# Altium schematic symbol library LINEAR Series.SchLib: 3 symbols
Pins are listed as number, name and electrical type; pins without a type are passive.

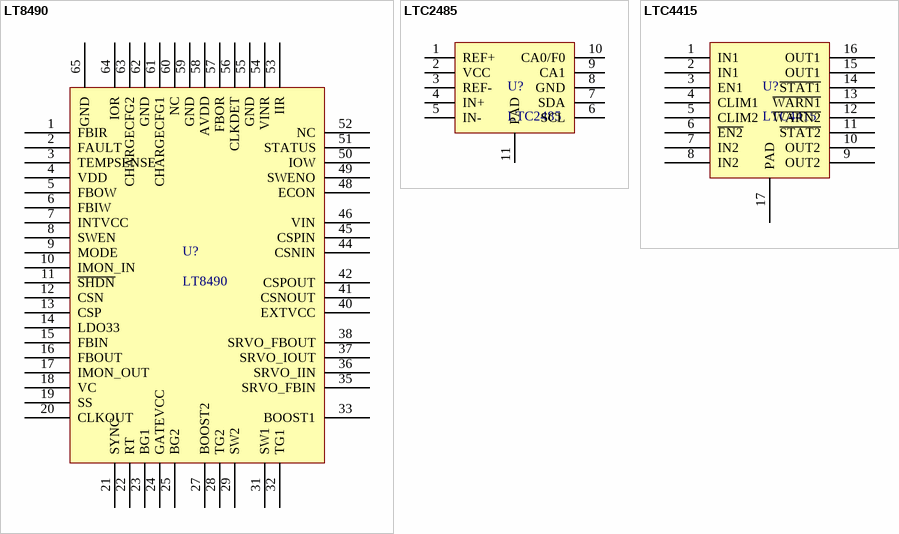
[diagram p0: symbols LT8490 to LTC4415]

## LT8490
designator U?
High Voltage, High Current Buck-Boost Battery Charge Controller with Maximum Power Point Tracking (MPPT)
footprint LINEAR-UKJ64(58)-QFN-64(58)-7x11-w.TP-IPC (QFN, 64(58)-Leads, Body 11.00x7.00mm, Pitch 0.50mm, Thermal Pad 9.38x3.15mm, IPC Medium Density)
pins: 1 FBIR, 2 FAULT, 3 TEMPSENSE, 4 VDD, 5 FBOW, 6 FBIW, 7 INTVCC, 8 SWEN, 9 MODE, 10 IMON_IN, 11 ~{SHDN}, 12 CSN, 13 CSP, 14 LDO33, 15 FBIN, 16 FBOUT, 17 IMON_OUT, 18 VC, 19 SS, 20 CLKOUT, 21 SYNC, 22 RT, 23 BG1, 24 GATEVCC, 25 BG2, 27 BOOST2, 28 TG2, 29 SW2, 31 SW1, 32 TG1, 33 BOOST1, 35 SRVO_FBIN, 36 SRVO_IIN, 37 SRVO_IOUT, 38 SRVO_FBOUT, 40 EXTVCC, 41 CSNOUT, 42 CSPOUT, 44 CSNIN, 45 CSPIN, 46 VIN, 48 ECON, 49 SWENO, 50 IOW, 51 STATUS, 52 NC, 53 IIR, 54 VINR, 55 GND, 56 CLKDET, 57 FBOR, 58 AVDD, 59 GND, 60 NC, 61 CHARGECFG1, 62 GND, 63 CHARGECFG2, 64 IOR, 65 GND

## LTC2485
designator U?
24-Bit ΔΣ ADC with Easy Drive Input Current Cancellation and I2C Interface
footprint DFN-10-0.5-3x3-w.TP-IPC (DFN, 10-Leads, Body 3.00x3.00mm, Pitch 0.50mm, Thermal Pad 2.38x1.65mm, IPC Medium Density)
pins: 1 REF+, 2 VCC, 3 REF-, 4 IN+, 5 IN-, 6 SCL, 7 SDA, 8 GND, 9 CA1, 10 CA0/F0, 11 PAD

## LTC4415
designator U?
Dual 4A Ideal Diodes with  Adjustable Current Limit
footprint Linear-MSOP-16-3x4.05-w.TP-IPC (TSSOP, 16-Leads, Body 4.05x3.00mm, Pitch 0.50mm, Thermal Pad 2.95.2x1.75.2mm, IPC Medium Density)
pins: 1 IN1, 2 IN1, 3 EN1, 4 CLIM1, 5 CLIM2, 6 ~{EN2}, 7 IN2, 8 IN2, 9 OUT2, 10 OUT2, 11 ~{STAT2}, 12 ~{WARN2}, 13 ~{WARN1}, 14 ~{STAT1}, 15 OUT1, 16 OUT1, 17 PAD